# EAGLE library part TEENSY_4.0 (library HyTechDevices)
Teensy 4.0 Datasheet <https://www.pjrc.com/store/teensy40.html> Requires ordering of: 2: 14 pin, 0.1" pitch female headers. Recommend Samtec SSM-114-L-SV for surface mount variant.
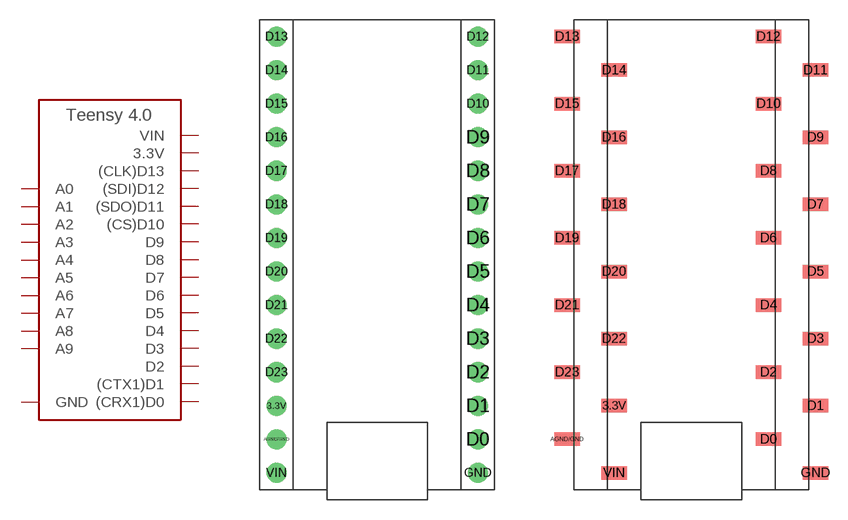
[diagram p20: symbol with the pads of TEENSY_SHORT; footprints TEENSY_SHORT, TEENSY_SHORT_SSM]

Designator prefix A

## TEENSY_4.0TH (TEENSY: 4.0)  [TEENSY_SHORT]
3.3V  3.3V  pwr
AGND/GND  GND  pwr
D0  (CRX1)D0
D1  (CTX1)D1
D2  D2
D3  D3
D4  D4
D5  D5
D6  D6
D7  D7
D8  D8
D9  D9
D10  (CS)D10
D11  (SDO)D11
D12  (SDI)D12
D13  (CLK)D13
D14  A0
D15  A1
D16  A2
D17  A3
D18  A4
D19  A5
D20  A6
D21  A7
D22  A8
D23  A9
GND  GND  pwr
VIN  VIN  pwr

## TEENSY_4.0SM (TEENSY: 4.0)  [TEENSY_SHORT_SSM]
Pads as for TEENSY_SHORT

## Footprint TEENSY_SHORT (pad centres in mm)
Teensy 3.2/4.0 Footprint Teensy 3.2 <https://www.pjrc.com/store/teensy32.html> Teensy 4.0 <https://www.pjrc.com/store/teensy40.html> Headers <https://media.digikey.com/pdf/Data%20Sheets/Sullins%20PDFs/Female_Headers.100_DS.pdf>
drill 1.016: 3.3V 0,5.08; AGND/GND 0,2.54; D0 15.24,2.54; D1 15.24,5.08; D2 15.24,7.62; D3 15.24,10.16; D4 15.24,12.7; D5 15.24,15.24; D6 15.24,17.78; D7 15.24,20.32; D8 15.24,22.86; D9 15.24,25.4; D10 15.24,27.94; D11 15.24,30.48; D12 15.24,33.02; D13 0,33.02; D14 0,30.48; D15 0,27.94; D16 0,25.4; D17 0,22.86; D18 0,20.32; D19 0,17.78; D20 0,15.24; D21 0,12.7; D22 0,10.16; D23 0,7.62; GND 15.24,0; VIN 0,0

## Footprint TEENSY_SHORT_SSM (pad centres in mm)
two SSM-114-L-SV placed on Teensy Datasheet <http://suddendocs.samtec.com/catalog_english/ssm_sm.pdf> Footprint <http://suddendocs.samtec.com/prints/ssm-sv.pdf> Teensy 3.2/4.0 Footprint Teensy 3.2 <https://www.pjrc.com/store/teensy32.html> Teensy 4.0 <https://www.pjrc.com/store/teensy40.html> Headers <https://media.digikey.com/pdf/Data%20Sheets/Sullins%20PDFs/Female_Headers.100_DS.pdf>
smd 1.905 x 1.02: 3.3V -5.842,-11.43; AGND/GND -9.398,-13.97; D0 5.842,-13.97; D1 9.398,-11.43; D2 5.842,-8.89; D3 9.398,-6.35; D4 5.842,-3.81; D5 9.398,-1.27; D6 5.842,1.27; D7 9.398,3.81; D8 5.842,6.35; D9 9.398,8.89; D10 5.842,11.43; D11 9.398,13.97; D12 5.842,16.51; D13 -9.398,16.51; D14 -5.842,13.97; D15 -9.398,11.43; D16 -5.842,8.89; D17 -9.398,6.35; D18 -5.842,3.81; D19 -9.398,1.27; D20 -5.842,-1.27; D21 -9.398,-3.81; D22 -5.842,-6.35; D23 -9.398,-8.89; GND 9.398,-16.51; VIN -5.842,-16.51